# Altium schematic symbol library XTAL_OSCILATOR.SchLib: 2 symbols
Pins are listed as number, name and electrical type; pins without a type are passive.

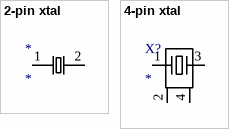
[diagram p0: symbols 2-pin xtal to 4-pin xtal]

## 2-pin xtal
designator *
pins: 1 3, 2

## 4-pin xtal
designator X?
ABMM-16.000MHZ-12-R100-N2-XTAL
footprint 16MHz XTAL (ABMM-16.000MHZ-12-R100-N2)
pins: 1, 2 (power), 3, 4 (power)